# EAGLE library part MAX680CSA (library maxim-6a)
Switched-capcitor VOLTAGE CONVERTER
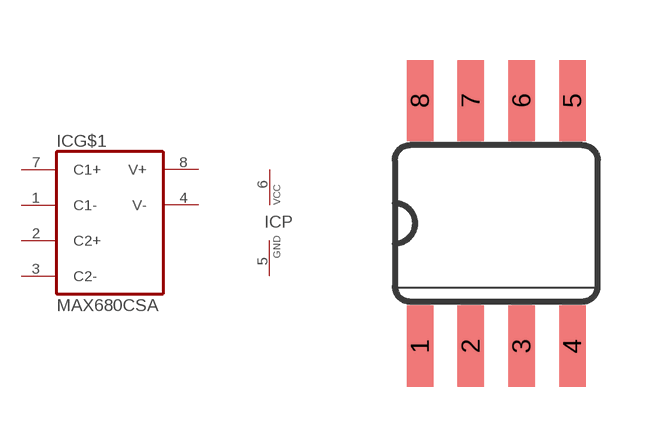
[diagram p72: symbol with the pads of SO08; footprint SO08]

Designator prefix IC; gates G$1=MAX680 P=VCC-GND

## MAX680CSA  [SO08]
1  G$1:C1-  pas
2  G$1:C2+  pas
3  G$1:C2-  pas
4  G$1:V-  out
5  P:GND  pwr
6  P:VCC  pwr
7  G$1:C1+  pas
8  G$1:V+  out

## Footprint SO08 (pad centres in mm)
Small Outline Package
smd 0.66 x 2.032: 1 -1.905,-3.073; 2 -0.635,-3.073; 3 0.635,-3.073; 4 1.905,-3.073; 5 1.905,3.073; 6 0.635,3.073; 7 -0.635,3.073; 8 -1.905,3.073